# Altium footprint library tmp.PcbLib: 6 footprints
Each footprint in its own frame and in the unit in brackets; x right, y up, seen from the top. Pads: shape width x height; smd on the part's side, far side on the other; paste and mask are expansions set on the pad; w line width, h text height; cw(c..) or ccw(c..) is an arc to the next point about the centre after c.
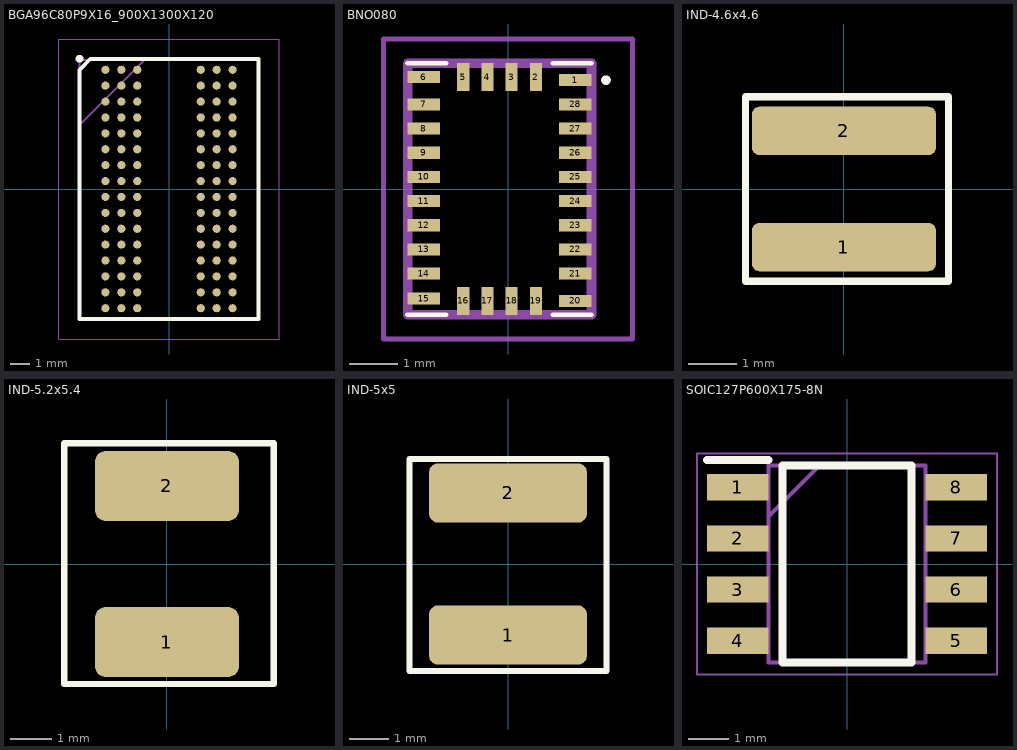
[diagram p0: the footprints below, top view; thin cyan lines are the x and y axes]

## BGA96C80P9X16_900X1300X120 [mm]
pads (96):
  round 0.41 smd: A1(-3.2,6) A2(-2.4,6) A3(-1.6,6) A7(1.6,6) A8(2.4,6) A9(3.2,6) B1(-3.2,5.2) B2(-2.4,5.2) B3(-1.6,5.2) B7(1.6,5.2) B8(2.4,5.2) B9(3.2,5.2) C1(-3.2,4.4) C2(-2.4,4.4) C3(-1.6,4.4) C7(1.6,4.4) C8(2.4,4.4) C9(3.2,4.4) D1(-3.2,3.6) D2(-2.4,3.6) D3(-1.6,3.6) D7(1.6,3.6) D8(2.4,3.6) D9(3.2,3.6) E1(-3.2,2.8) E2(-2.4,2.8) E3(-1.6,2.8) E7(1.6,2.8) E8(2.4,2.8) E9(3.2,2.8) F1(-3.2,2) F2(-2.4,2) F3(-1.6,2) F7(1.6,2) F8(2.4,2) F9(3.2,2) G1(-3.2,1.2) G2(-2.4,1.2) G3(-1.6,1.2) G7(1.6,1.2) G8(2.4,1.2) G9(3.2,1.2) H1(-3.2,0.4) H2(-2.4,0.4) H3(-1.6,0.4) H7(1.6,0.4) H8(2.4,0.4) H9(3.2,0.4) J1(-3.2,-0.4) J2(-2.4,-0.4) J3(-1.6,-0.4) J7(1.6,-0.4) J8(2.4,-0.4) J9(3.2,-0.4) K1(-3.2,-1.2) K2(-2.4,-1.2) K3(-1.6,-1.2) K7(1.6,-1.2) K8(2.4,-1.2) K9(3.2,-1.2) L1(-3.2,-2) L2(-2.4,-2) L3(-1.6,-2) L7(1.6,-2) L8(2.4,-2) L9(3.2,-2) M1(-3.2,-2.8) M2(-2.4,-2.8) M3(-1.6,-2.8) M7(1.6,-2.8) M8(2.4,-2.8) M9(3.2,-2.8) N1(-3.2,-3.6) N2(-2.4,-3.6) N3(-1.6,-3.6) N7(1.6,-3.6) N8(2.4,-3.6) N9(3.2,-3.6) P1(-3.2,-4.4) P2(-2.4,-4.4) P3(-1.6,-4.4) P7(1.6,-4.4) P8(2.4,-4.4) P9(3.2,-4.4) R1(-3.2,-5.2) R2(-2.4,-5.2) R3(-1.6,-5.2) R7(1.6,-5.2) R8(2.4,-5.2) R9(3.2,-5.2) T1(-3.2,-6) T2(-2.4,-6) T3(-1.6,-6) T7(1.6,-6) T8(2.4,-6) T9(3.2,-6)
Top Overlay:
  circle w0.2: c-4.5,6.555 r0.1
  lines w0.2: -4.5,-6.555 -4.5,6 -3.945,6.555 4.5,6.555 4.5,-6.555 -4.5,-6.555
Mechanical 13:
  lines w0.1: -4.5,3.225 -1.225,6.5 ; -4.5,-6.5 -4.5,6.5 4.5,6.5 4.5,-6.5 -4.5,-6.5
Mechanical 15:
  lines w0.05: -5.55,-7.55 -5.55,7.55 5.55,7.55 5.55,-7.55 -5.55,-7.55
3D body "IS43TR16640C-125JBLI.stp": height 1.2, standoff 0, extent -4.5,-6.5 4.5,6.5

## BNO080 [mm]
pads (28):
  rect 0.675x0.25 smd: 1(1.387,2.25) 6(-1.738,2.313) 7(-1.738,1.75) 8(-1.738,1.25) 9(-1.738,0.75) 10(-1.738,0.25) 11(-1.738,-0.25) 12(-1.738,-0.75) 13(-1.738,-1.25) 14(-1.738,-1.75) 15(-1.738,-2.263) 20(1.387,-2.313) 21(1.387,-1.75) 22(1.387,-1.25) 23(1.387,-0.75) 24(1.387,-0.25) 25(1.387,0.25) 26(1.387,0.75) 27(1.387,1.25) 28(1.387,1.75)
  rect 0.25x0.575 smd: 2(0.575,2.313) 3(0.075,2.313) 4(-0.425,2.313) 5(-0.925,2.313) 16(-0.925,-2.313) 17(-0.425,-2.313) 18(0.075,-2.313) 19(0.575,-2.313)
Top Overlay:
  lines w0.1: -2.075,-2.6 -1.275,-2.6 ; -2.075,2.6 -1.275,2.6 ; 0.925,-2.6 1.725,-2.6 ; 0.925,2.6 1.725,2.6 ; 2.025,2.2 ccw(c2.025,2.25) 2.025,2.3 ccw(c2.025,2.25) 2.025,2.2
Mechanical 13:
  lines w0.2: -2.075,-2.6 1.725,-2.6 1.725,2.6 -2.075,2.6 -2.075,-2.6
Mechanical 15:
  lines w0.1: -2.575,-3.1 2.575,-3.1 2.575,3.1 -2.575,3.1 -2.575,-3.1
3D body "BNO080.stp": height 1.28, standoff 0, extent -2.075,-2.6 1.725,2.6

## IND-4.6x4.6 [mm]
pads (2):
  rrect30% 3.8x1 smd: 1(0,-1.2) 2(0,1.2)
Top Overlay:
  lines w0.15: -2.032,-1.905 2.159,-1.905 2.159,1.905 -2.032,1.905 -2.032,-1.905
3D body "Inductor_CD32.STEP": height 2.3, standoff -0.17, extent -1.644,-1.704 1.644,1.704

## IND-5.2x5.4 [mm]
pads (2):
  rrect30% 3.5x1.7 smd: 1(0,-1.9) 2(0,1.9)
Top Overlay:
  lines w0.15: -2.5,-2.918 -2.5,2.937 2.6,2.937 2.6,-2.918 -2.5,-2.918
3D body "Inductor_CD32.STEP": height 2.3, standoff -0.17, extent -1.644,-1.704 1.644,1.704

## IND-5x5 [mm]
pads (2):
  rrect30% 4x1.5 smd: 1(0,-1.8) 2(0,1.8)
Top Overlay:
  lines w0.15: -2.5,-2.715 -2.5,2.662 2.5,2.662 2.5,-2.715 -2.5,-2.715
3D body "Inductor_CD32.STEP": height 2.3, standoff -0.17, extent -1.644,-1.704 1.644,1.704

## SOIC127P600X175-8N [mm]
pads (8):
  rect 1.525x0.65 smd: 1(-2.712,1.905) 2(-2.712,0.635) 3(-2.712,-0.635) 4(-2.712,-1.905) 5(2.712,-1.905) 6(2.712,-0.635) 7(2.712,0.635) 8(2.712,1.905)
Top Overlay:
  lines w0.2: -3.475,2.58 -1.95,2.58 ; -1.6,-2.45 1.6,-2.45 1.6,2.45 -1.6,2.45 -1.6,-2.45
Mechanical 13:
  lines w0.1: -1.95,1.18 -0.68,2.45 ; -1.95,-2.45 1.95,-2.45 1.95,2.45 -1.95,2.45 -1.95,-2.45
Mechanical 15:
  lines w0.05: -3.725,-2.75 3.725,-2.75 3.725,2.75 -3.725,2.75 -3.725,-2.75
3D body "NE555DR.stp": height 1.75, standoff 0, extent -3,-2.45 3,2.45